# Altium footprint library Amphenol.PcbLib: 1 footprints
Each footprint in its own frame and in the unit in brackets; x right, y up, seen from the top. Pads: shape width x height; smd on the part's side, far side on the other; paste and mask are expansions set on the pad; w line width, h text height; cw(c..) or ccw(c..) is an arc to the next point about the centre after c.
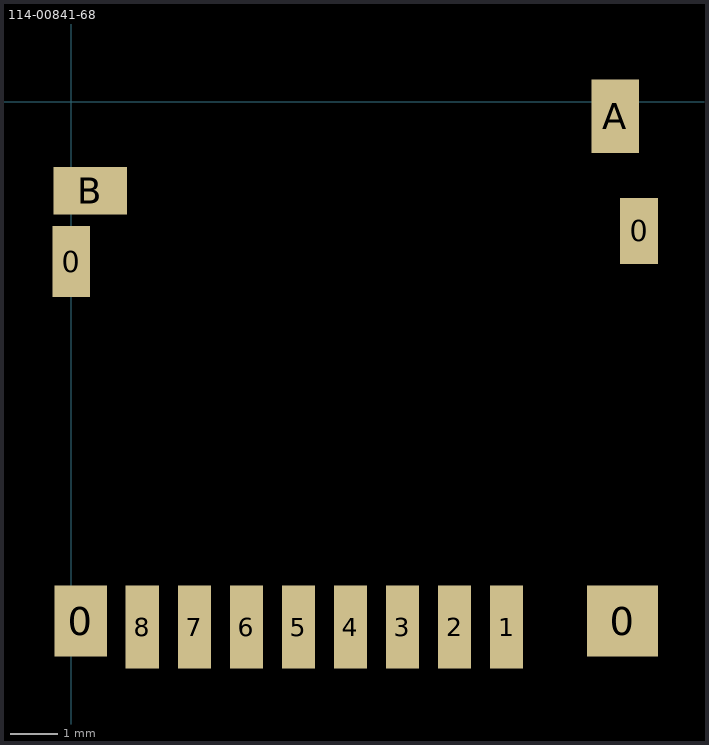
[diagram p0: the footprint, top view; thin cyan lines are the x and y axes]

## 114-00841-68 [mm] "Micro-SD"
pads (14):
  rect 0.8x1.5 smd: 0(0,-3.375)
  rect 1.1x1.5 smd: 0(0.2,-10.975)
  rect 1.5x1.5 smd: 0(11.65,-10.975)
  rect 0.8x1.4 smd: 0(12,-2.725)
  rect 0.7x1.75 smd: 1(9.2,-11.1) 2(8.1,-11.1) 3(7,-11.1) 4(5.9,-11.1) 5(4.8,-11.1) 6(3.7,-11.1) 7(2.6,-11.1) 8(1.5,-11.1)
  rect 1x1.55 smd: A(11.5,-0.3)
  rect 1.55x1 smd: B(0.4,-1.875)
3D body: height 1.24, standoff 0.41, extent 0.5,-15.6 11.5,-11.425
3D body: height 1.65, standoff 0, extent 0,-11.425 11.95,0.025